# Altium schematic symbol library test point.SchLib: 1 symbol
Pins are listed as number, name and electrical type; pins without a type are passive.

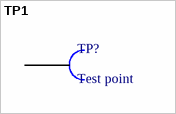
[diagram p0: symbol TP1]

## TP1
designator TP?, comment Test point
PCB Test Point
footprint Test_Point_1x1
pins: 1